# EAGLE library part GECKO_POWER_SUPPLY_CONN (library gecko)
Header on the gecko power supply board.
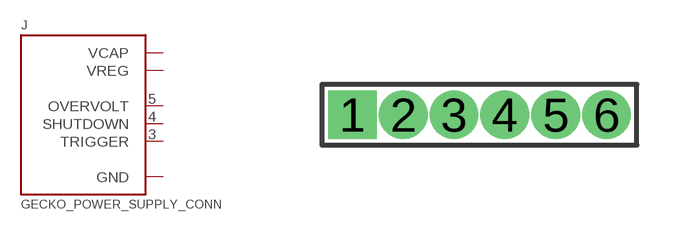
[diagram p10: symbol with the pads of HEADER1X6/0.05IN; footprint HEADER1X6/0.05IN]

Designator prefix J

## GECKO_POWER_SUPPLY_CONN  [HEADER1X6/0.05IN]
1  GND
2  VREG
3  TRIGGER
4  SHUTDOWN
5  OVERVOLT
6  VCAP  out

## Footprint HEADER1X6/0.05IN (pad centres in mm)
drill 0.711 pad 1.016 square: 1 -2.54,0
drill 0.711 pad 1.016: 2 -1.27,0; 3 0,0; 4 1.27,0; 5 2.54,0; 6 3.81,0